# EAGLE library part HEADER_21P (library Public)
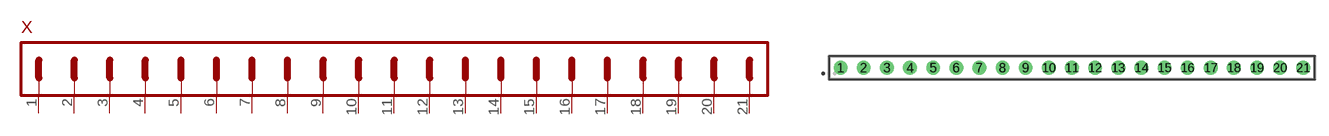
[diagram p58: symbol with the pads of HEADER_21P_1ROW_RM2.54MM_THT; footprint HEADER_21P_1ROW_RM2.54MM_THT]

Designator prefix X

## HEADER_21P(RM2.54MM_1ROW_THT)  [HEADER_21P_1ROW_RM2.54MM_THT]
1  PIN1
2  PIN2
3  PIN3
4  PIN4
5  PIN5
6  PIN6
7  PIN7
8  PIN8
9  PIN9
10  PIN10
11  PIN11
12  PIN12
13  PIN13
14  PIN14
15  PIN15
16  PIN16
17  PIN17
18  PIN18
19  PIN19
20  PIN20
21  PIN21

## Footprint HEADER_21P_1ROW_RM2.54MM_THT (pad centres in mm)
drill 1: 1 -25.4,0; 2 -22.86,0; 3 -20.32,0; 4 -17.78,0; 5 -15.24,0; 6 -12.7,0; 7 -10.16,0; 8 -7.62,0; 9 -5.08,0; 10 -2.54,0; 11 0,0; 12 2.54,0; 13 5.08,0; 14 7.62,0; 15 10.16,0; 16 12.7,0; 17 15.24,0; 18 17.78,0; 19 20.32,0; 20 22.86,0; 21 25.4,0